# EAGLE library part STM32C092FCP6 (library STM32C092FCP6)
Mainstream Arm Cortex-M0+ MCU with 256 Kbytes of Flash memory, 30 Kbytes RAM, 48 MHz CPU, 4x USART, timers, ADC, comm. I/F, 2-3.6V Source: Datasheet <https://www.st.com/resource/en/datasheet/stm32c091cb.pdf>
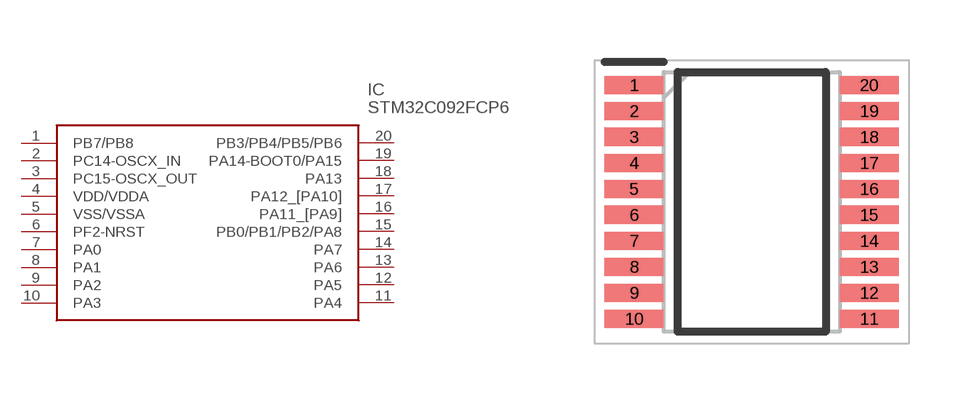
[diagram p0: symbol with the pads of SOP65P640X120-20N; footprint SOP65P640X120-20N]

Designator prefix IC

## STM32C092FCP6 (Description: Mainstream Arm Cortex-M0+ MCU with 256 Kbytes of Flash memory, 30 Kbytes RAM, 48 MHz CPU, 4x USART, timers, ADC, comm. I/F, 2-3.6V; Height: 1.2mm; Manufacturer_Name: STMicroelectronics; Manufacturer_Part_Number: STM32C092FCP6)  [SOP65P640X120-20N]
1  PB7/PB8
2  PC14-OSCX_IN
3  PC15-OSCX_OUT
4  VDD/VDDA
5  VSS/VSSA
6  PF2-NRST
7  PA0
8  PA1
9  PA2
10  PA3
11  PA4
12  PA5
13  PA6
14  PA7
15  PB0/PB1/PB2/PA8
16  PA11_[PA9]
17  PA12_[PA10]
18  PA13
19  PA14-BOOT0/PA15
20  PB3/PB4/PB5/PB6

## Footprint SOP65P640X120-20N (pad centres in mm)
TSSOP-20
smd 1.475 x 0.45: 1 -2.938,2.925; 2 -2.938,2.275; 3 -2.938,1.625; 4 -2.938,0.975; 5 -2.938,0.325; 6 -2.938,-0.325; 7 -2.938,-0.975; 8 -2.938,-1.625; 9 -2.938,-2.275; 10 -2.938,-2.925; 11 2.938,-2.925; 12 2.938,-2.275; 13 2.938,-1.625; 14 2.938,-0.975; 15 2.938,-0.325; 16 2.938,0.325; 17 2.938,0.975; 18 2.938,1.625; 19 2.938,2.275; 20 2.938,2.925